# Altium schematic symbol library NodeMCU_LoLin_v3-sch.SchLib: 1 symbol
Pins are listed as number, name and electrical type; pins without a type are passive.

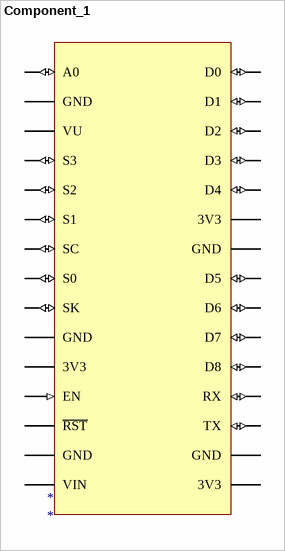
[diagram p0: symbol Component_1]

## Component_1
designator *
pins: 3V3 (power) "3.3V", 3V3 (power) "3.3V", 3V3 (power) "3.3V", A0 (io) "2/TOUT/ADC0", D0 (io) "4/GPIO16/USER/WAKE", D1 (io) "20/GPIO5/SCL", D2 (io) "19/GPIO4/SDA/PWM", D3 (io) "18/GPIO0/FLASH", D4 (io) "17/GPIO2/TXD1", D5 (io) "5/GPIO14/HSCLK/PWM", D6 (io) "6/GPIO12/HMISO/PWM", D7 (io) "7/GPIO13/CTS0/HMOSI", D8 (io) "16/GPIO15/RTS0/HCS/PWM", EN (in) "ENABLE/CH_PD", GND (power) "Reserved", GND (power), GND (power), GND (power), GND (power), RST ~{RST} "RESET", RX (io) "21/GPIO3/RXD0", S0 (io) "10/GPIO7/MISO/SDD0", S1 (io) "13/GPIO8/MOSI/SDD1", S2 (io) "11/GPIO9/SDD2", S3 (io) "12/GPIO10/SDD3", SC (io) "9/GPIO11/CS/SDCMD", SK (io) "14/GPIO6/SCLK/DSCLK", TX (io) "22/GPIO1/TXD0", VIN (power), VU (power) "Reserved"